# Altium schematic symbol library LMR36015AQRNXRQ1.SchLib: 2 symbols
Pins are listed as number, name and electrical type; pins without a type are passive.

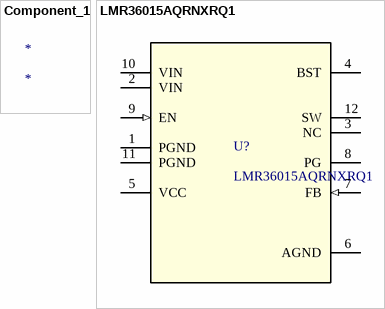
[diagram p0: symbols Component_1 to LMR36015AQRNXRQ1]

## Component_1
designator *

## LMR36015AQRNXRQ1
designator U?
No Description Available; Mfr_Name: Texas Instruments; Type: DEV; RefDes: RefDes; Copyright: Copyright (C) 2022 Ultra Librarian. All rights reserved.; Manufacturer_Part_Number: LMR36015AQRNXRQ1
footprint RNX0012B
pins: 1 PGND (power), 2 VIN (power), 3 NC, 4 BST, 5 VCC (power), 6 AGND (power), 7 FB (in), 8 PG (oc), 9 EN (in), 10 VIN (power), 11 PGND (power), 12 SW (power)